# EAGLE library part 615008140121 (library USB_c_conn)
WR-MJ Horizontal Shielded 3.05mm Front Grounding Post 8P8C Modular Jack Tab Down, 8 pins=>Code : Con_I-O_MJ-H_Shielded_Down_615008140121 <http://katalog.we-online.de/media/images/eican/Con_I-O_MJ-H_Shielded_Down_615008140121_pf2.jpg> Details see: http://katalog.we-online.de/en/em/MJ_HORIZONTAL_SHIELDED_8P8C_TAB_DOWN Created 2014-07-09, Karrer Zheng 2014 (C) Würth Elektronik
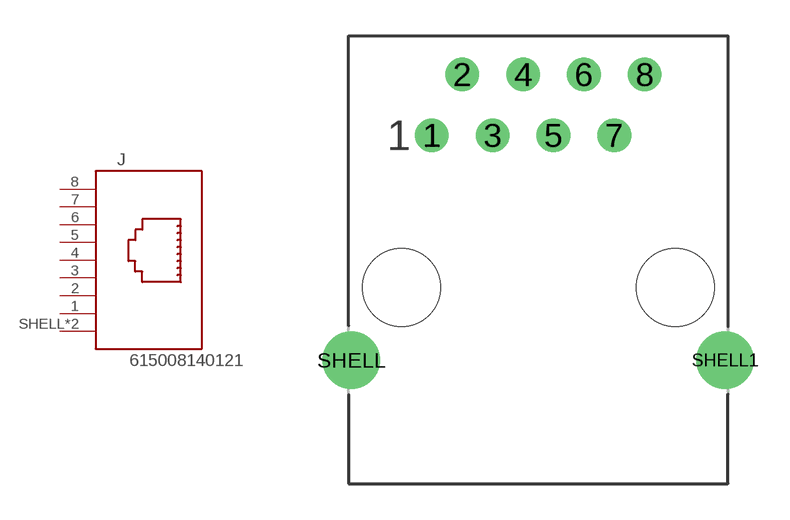
[diagram p108: symbol with the pads of 615008140121; footprint 615008140121]

Designator prefix J

## 615008140121  [615008140121]
1  1  pas
2  2  pas
3  3  pas
4  4  pas
5  5  pas
6  6  pas
7  7  pas
8  8  pas
SHELL  SHIELD  pas
SHELL1  SHIELD  pas

## Footprint 615008140121 (pad centres in mm)
WR-MJ Horizontal Shielded 3.05mm Front Grounding Post 8P8C Modular Jack Tab Down, 8 pins
drill 0.9: 1 -4.445,-1.27; 2 -3.175,1.27; 3 -1.905,-1.27; 4 -0.635,1.27; 5 0.635,-1.27; 6 1.905,1.27; 7 3.175,-1.27; 8 4.445,1.27
drill 1.6: SHELL -7.8,-10.67; SHELL1 7.8,-10.67
hole 3.25 at -5.715,-7.62
hole 3.25 at 5.715,-7.62